# Altium footprint library SnapEDApcb.PcbLib: 1 footprints
Each footprint in its own frame and in the unit in brackets; x right, y up, seen from the top. Pads: shape width x height; smd on the part's side, far side on the other; paste and mask are expansions set on the pad; w line width, h text height; cw(c..) or ccw(c..) is an arc to the next point about the centre after c.
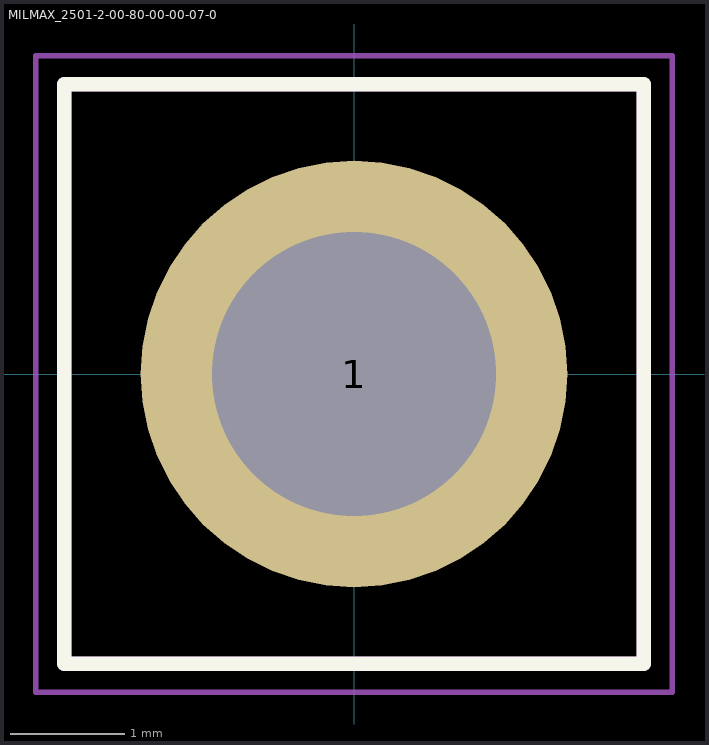
[diagram p0: the footprint, top view; thin cyan lines are the x and y axes]

## MILMAX_2501-2-00-80-00-00-07-0 [mm]
pads (1):
  round 3.74 hole 2.49: 1(0,0)
Top Overlay:
  lines w0.127: -2.54,-2.54 2.54,-2.54 2.54,2.54 -2.54,2.54 -2.54,-2.54
Mechanical 13:
  lines w0.127: -2.54,-2.54 2.54,-2.54 2.54,2.54 -2.54,2.54 -2.54,-2.54
Mechanical 15:
  lines w0.05: -2.79,-2.79 2.79,-2.79 2.79,2.79 -2.79,2.79 -2.79,-2.79